# Altium footprint library PCB - FUSE - LITTLEFUSE_154.PCBLIB: 1 footprints
Each footprint in its own frame and in the unit in brackets; x right, y up, seen from the top. Pads: shape width x height; smd on the part's side, far side on the other; paste and mask are expansions set on the pad; w line width, h text height; cw(c..) or ccw(c..) is an arc to the next point about the centre after c.
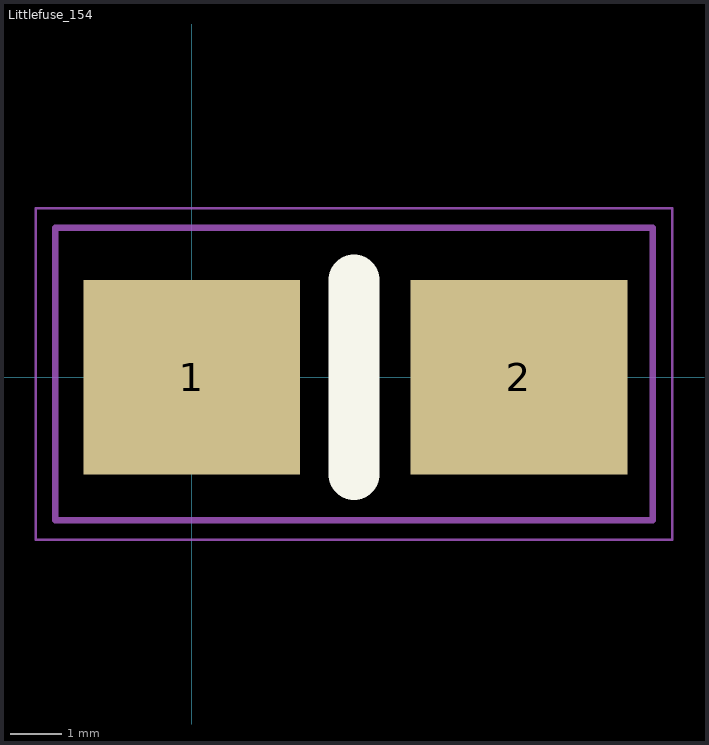
[diagram p0: the footprint, top view; thin cyan lines are the x and y axes]

## Littlefuse_154 [mm]
pads (2):
  rect 4.24x3.81 smd: 1(0,0) 2(6.4,0)
Top Overlay:
  lines w1: 3.175,-1.905 3.175,1.905
Top Assembly:
  lines w0.127: -2.667,-2.794 9.017,-2.794 9.017,2.921 -2.667,2.921 -2.667,-2.794
Top Courtyard:
  lines w0.051: -3.048,-3.175 9.398,-3.175 9.398,3.302 -3.048,3.302 -3.048,-3.175
Top Designator:
  text ".Designator" at -2.794,5.207 h1
Top Value (Mech13):
  text ".Comment" at -2.794,4.064 h1
3D body "User Library-Littlefuse 0154 Holder and Fuse.STEP": height 3.71, standoff 0.01, extent -1.658,-2.487 8.042,2.513